# Altium footprint library remove.PcbLib: 1 footprints
Each footprint in its own frame and in the unit in brackets; x right, y up, seen from the top. Pads: shape width x height; smd on the part's side, far side on the other; paste and mask are expansions set on the pad; w line width, h text height; cw(c..) or ccw(c..) is an arc to the next point about the centre after c.
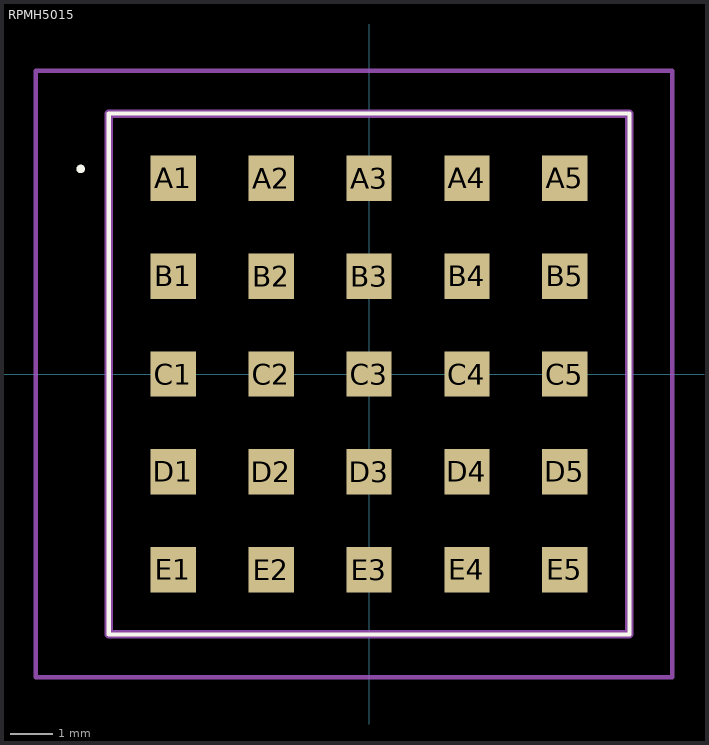
[diagram p0: the footprint, top view; thin cyan lines are the x and y axes]

## RPMH5015 [mm]
pads (25):
  rect 1.06x1.06 smd: A1(-4.58,4.58) A2(-2.29,4.58) A3(0,4.58) A4(2.29,4.58) A5(4.58,4.58) B1(-4.58,2.29) B2(-2.29,2.29) B3(0,2.29) B4(2.29,2.29) B5(4.58,2.29) C1(-4.58,0) C2(-2.29,0) C3(0,0) C4(2.29,0) C5(4.58,0) D1(-4.58,-2.29) D2(-2.29,-2.29) D3(0,-2.29) D4(2.29,-2.29) D5(4.58,-2.29) E1(-4.58,-4.58) E2(-2.29,-4.58) E3(0,-4.58) E4(2.29,-4.58) E5(4.58,-4.58)
Top Overlay:
  lines w0.1: -6.8,4.8 ccw(c-6.75,4.8) -6.7,4.8 ccw(c-6.75,4.8) -6.8,4.8 ; -6.095,-6.095 6.095,-6.095 6.095,6.095 -6.095,6.095 -6.095,-6.095
Mechanical 13:
  lines w0.2: -6.095,-6.095 6.095,-6.095 6.095,6.095 -6.095,6.095 -6.095,-6.095
Mechanical 15:
  lines w0.1: -7.8,-7.095 7.095,-7.095 7.095,7.095 -7.8,7.095 -7.8,-7.095
3D body "RPMH5.0-1.5-CT.stp": height 3.97, standoff 0, extent -6.7,-6.19 5.99,6.2